# Altium integrated library Resistors.IntLib: 4954 symbols (part 21 of 32)
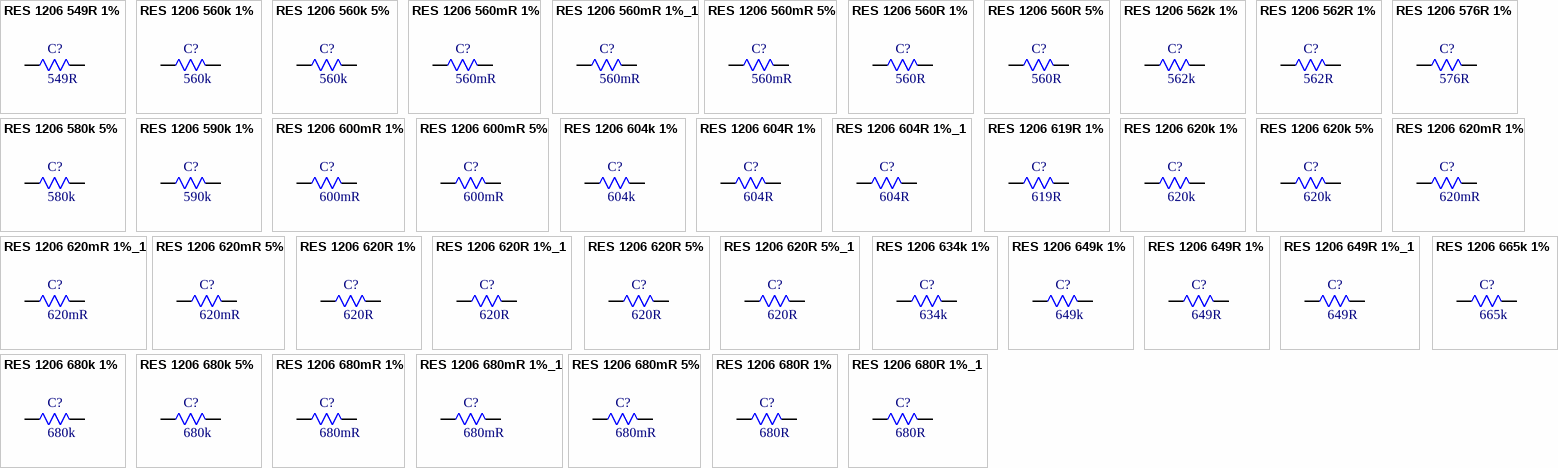
[diagram p143: symbols RES 1206 549R 1% to RES 1206 680R 1%_1]

## RES 1206 680mR 5%
designator C?, comment 680mR
680mR 5% 250mW 1206 Thick Film Resistor; Manufacturer: FOJAN; Manufacturer Part Number: FRL1206JR680TS; Voltage Rating: 500V; Supplier: LCSC; Supplier Part Number: C2907402; Resistance: 680mR; Tolerance: 5%; Power: 250mW
footprint RES SMD 1206
pins: 1, 2

## RES 1206 680R 1%
designator C?, comment 680R
680R 1% 250mW 1206 Thick Film Resistor; Manufacturer: FOJAN; Manufacturer Part Number: FRC1206F6800TS; Voltage Rating: 200V; Supplier: LCSC; Supplier Part Number: C2933746; Resistance: 680R; Tolerance: 1%; Power: 250mW
footprint RES SMD 1206
pins: 1, 2

## RES 1206 680R 1%_1
designator C?, comment 680R
680R 500mW 200V Thick Film Resistor 1% 200ppm/â„ƒ 1206 Chip Resistor - Surface Mount RoHS; Manufacturer: FOJAN; Manufacturer Part Number: FRP1206F6800TS; Supplier: LCSC; Supplier Part Number: C48533685; Resistance: 680R; Tolerance: 1%; Voltage Rating: 200V; Power: 500mW
footprint RES SMD 1206
pins: 1, 2

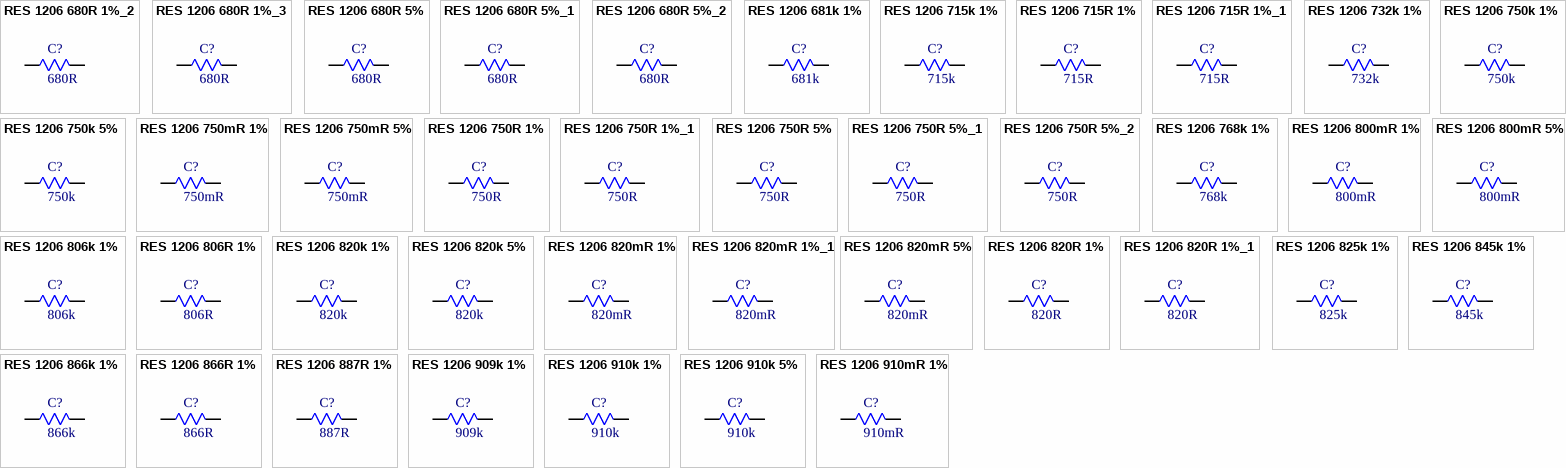
[diagram p80: symbols RES 1206 680R 1%_2 to RES 1206 910mR 1%]

## RES 1206 680R 1%_2
designator C?, comment 680R
680R Thick Film Resistor 100ppm/â„ƒ 1% 1206 Chip Resistor - Surface Mount RoHS; Manufacturer: FOJAN; Manufacturer Part Number: FPQ1206F6800TS; Supplier: LCSC; Supplier Part Number: C3013390; Resistance: 680R; Tolerance: 1%
footprint RES SMD 1206
pins: 1, 2

## RES 1206 680R 1%_3
designator C?, comment 680R
680R 250mW 200V Thick Film Resistor 1% 100ppm/â„ƒ 1206 Chip Resistor - Surface Mount RoHS; Manufacturer: FOJAN; Manufacturer Part Number: FRQ1206F6800TS; Supplier: LCSC; Supplier Part Number: C7471247; Resistance: 680R; Tolerance: 1%; Voltage Rating: 200V; Power: 250mW
footprint RES SMD 1206
pins: 1, 2

## RES 1206 680R 5%
designator C?, comment 680R
680R 5% 250mW 1206 Thick Film Resistor; Manufacturer: FOJAN; Manufacturer Part Number: FRC1206J681 TS; Voltage Rating: 200V; Supplier: LCSC; Supplier Part Number: C2907528; Resistance: 680R; Tolerance: 5%; Power: 250mW
footprint RES SMD 1206
pins: 1, 2

## RES 1206 680R 5%_1
designator C?, comment 680R
680R 250mW Thick Film Resistor 5% 100ppm/â„ƒ 1206 Chip Resistor - Surface Mount RoHS; Manufacturer: FOJAN; Manufacturer Part Number: FRQ1206J681 TS; Supplier: LCSC; Supplier Part Number: C7468542; Resistance: 680R; Tolerance: 5%; Power: 250mW
footprint RES SMD 1206
pins: 1, 2

## RES 1206 680R 5%_2
designator C?, comment 680R
680R 5% 250mW 1206 Thick Film Resistor; Manufacturer: FOJAN; Manufacturer Part Number: FRD1206J681TS; Voltage Rating: 200V; Supplier: LCSC; Supplier Part Number: C2930382; Resistance: 680R; Tolerance: 5%; Power: 250mW
footprint RES SMD 1206
pins: 1, 2

## RES 1206 681k 1%
designator C?, comment 681k
250mW 681kR 200V Thick Film Resistor 1% 1206 Chip Resistor - Surface Mount RoHS; Manufacturer: FOJAN; Manufacturer Part Number: FRC1206F6813TS; Supplier: LCSC; Supplier Part Number: C52033563; Resistance: 681k; Tolerance: 1%; Voltage Rating: 200V; Power: 250mW
footprint RES SMD 1206
pins: 1, 2

## RES 1206 715k 1%
designator C?, comment 715k
715kR 1% 250mW 1206 Thick Film Resistor; Manufacturer: FOJAN; Manufacturer Part Number: FRC1206F7153TS; Voltage Rating: 200V; Supplier: LCSC; Supplier Part Number: C5713330; Resistance: 715k; Tolerance: 1%; Power: 250mW
footprint RES SMD 1206
pins: 1, 2

## RES 1206 715R 1%
designator C?, comment 715R
715R 1% 250mW 1206 Thick Film Resistor; Manufacturer: FOJAN; Manufacturer Part Number: FRC1206F7150TS; Voltage Rating: 200V; Supplier: LCSC; Supplier Part Number: C2999583; Resistance: 715R; Tolerance: 1%; Power: 250mW
footprint RES SMD 1206
pins: 1, 2

## RES 1206 715R 1%_1
designator C?, comment 715R
250mW 715R 200V Thick Film Resistor 1% 100ppm/â„ƒ 1206 Chip Resistor - Surface Mount RoHS; Manufacturer: FOJAN; Manufacturer Part Number: FRQ1206F7150TS; Supplier: LCSC; Supplier Part Number: C7468663; Resistance: 715R; Tolerance: 1%; Voltage Rating: 200V; Power: 250mW
footprint RES SMD 1206
pins: 1, 2

## RES 1206 732k 1%
designator C?, comment 732k
250mW 732kR 200V Thick Film Resistor 100ppm/â„ƒ 1% 1206 Chip Resistor - Surface Mount RoHS; Manufacturer: FOJAN; Manufacturer Part Number: FRC1206F7323TS; Supplier: LCSC; Supplier Part Number: C48533768; Resistance: 732k; Tolerance: 1%; Voltage Rating: 200V; Power: 250mW
footprint RES SMD 1206
pins: 1, 2

## RES 1206 750k 1%
designator C?, comment 750k
750kR 1% 250mW 1206 Thick Film Resistor; Manufacturer: FOJAN; Manufacturer Part Number: FRC1206F7503TS; Voltage Rating: 200V; Supplier: LCSC; Supplier Part Number: C2933754; Resistance: 750k; Tolerance: 1%; Power: 250mW
footprint RES SMD 1206
pins: 1, 2

## RES 1206 750k 5%
designator C?, comment 750k
750kR 5% 250mW 1206 Thick Film Resistor; Manufacturer: FOJAN; Manufacturer Part Number: FRC1206J754 TS; Voltage Rating: 200V; Supplier: LCSC; Supplier Part Number: C2907533; Resistance: 750k; Tolerance: 5%; Power: 250mW
footprint RES SMD 1206
pins: 1, 2

## RES 1206 750mR 1%
designator C?, comment 750mR
750mR 1% 250mW 1206 Thick Film Resistor; Manufacturer: FOJAN; Manufacturer Part Number: FRL1206FR750TS; Voltage Rating: 500V; Supplier: LCSC; Supplier Part Number: C2907360; Resistance: 750mR; Tolerance: 1%; Power: 250mW
footprint RES SMD 1206
pins: 1, 2

## RES 1206 750mR 5%
designator C?, comment 750mR
750mR 5% 250mW 1206 Thick Film Resistor; Manufacturer: FOJAN; Manufacturer Part Number: FRL1206JR750TS; Voltage Rating: 500V; Supplier: LCSC; Supplier Part Number: C2907403; Resistance: 750mR; Tolerance: 5%; Power: 250mW
footprint RES SMD 1206
pins: 1, 2

## RES 1206 750R 1%
designator C?, comment 750R
750R 1% 250mW 1206 Thick Film Resistor; Manufacturer: FOJAN; Manufacturer Part Number: FRC1206F7500TS; Voltage Rating: 200V; Supplier: LCSC; Supplier Part Number: C2933752; Resistance: 750R; Tolerance: 1%; Power: 250mW
footprint RES SMD 1206
pins: 1, 2

## RES 1206 750R 1%_1
designator C?, comment 750R
250mW 750R Thick Film Resistor 1% 100ppm/â„ƒ 1206 Chip Resistor - Surface Mount RoHS; Manufacturer: FOJAN; Manufacturer Part Number: FRQ1206F7500TS; Supplier: LCSC; Supplier Part Number: C7468540; Resistance: 750R; Tolerance: 1%; Power: 250mW
footprint RES SMD 1206
pins: 1, 2

## RES 1206 750R 5%
designator C?, comment 750R
750R 5% 250mW 1206 Thick Film Resistor; Manufacturer: FOJAN; Manufacturer Part Number: FRC1206J751 TS; Voltage Rating: 200V; Supplier: LCSC; Supplier Part Number: C3013272; Resistance: 750R; Tolerance: 5%; Power: 250mW
footprint RES SMD 1206
pins: 1, 2

## RES 1206 750R 5%_1
designator C?, comment 750R
250mW 750R Thick Film Resistor 5% 100ppm/â„ƒ 1206 Chip Resistor - Surface Mount RoHS; Manufacturer: FOJAN; Manufacturer Part Number: FRQ1206J751 TS; Supplier: LCSC; Supplier Part Number: C7468512; Resistance: 750R; Tolerance: 5%; Power: 250mW
footprint RES SMD 1206
pins: 1, 2

## RES 1206 750R 5%_2
designator C?, comment 750R
750R 5% 250mW 1206 Thick Film Resistor; Manufacturer: FOJAN; Manufacturer Part Number: FRC1206J751 TSD; Voltage Rating: 200V; Supplier: LCSC; Supplier Part Number: C2907534; Resistance: 750R; Tolerance: 5%; Power: 250mW
footprint RES SMD 1206
pins: 1, 2

## RES 1206 768k 1%
designator C?, comment 768k
768kR 1% 250mW 1206 Thick Film Resistor; Manufacturer: FOJAN; Manufacturer Part Number: FRC1206F7683TS; Voltage Rating: 200V; Supplier: LCSC; Supplier Part Number: C2960699; Resistance: 768k; Tolerance: 1%; Power: 250mW
footprint RES SMD 1206
pins: 1, 2

## RES 1206 800mR 1%
designator C?, comment 800mR
800mR 1% 250mW 1206 Thick Film Resistor; Manufacturer: FOJAN; Manufacturer Part Number: FRL1206FR800TS; Voltage Rating: 500V; Supplier: LCSC; Supplier Part Number: C2930341; Resistance: 800mR; Tolerance: 1%; Power: 250mW
footprint RES SMD 1206
pins: 1, 2

## RES 1206 800mR 5%
designator C?, comment 800mR
800mR 250mW Thick Film Resistor 200ppm/â„ƒ 5% 1206 Chip Resistor - Surface Mount RoHS; Manufacturer: FOJAN; Manufacturer Part Number: FRL1206JR800TS; Supplier: LCSC; Supplier Part Number: C7467371; Resistance: 800mR; Tolerance: 5%; Power: 250mW
footprint RES SMD 1206
pins: 1, 2

## RES 1206 806k 1%
designator C?, comment 806k
806kR 1% 250mW 1206 Thick Film Resistor; Manufacturer: FOJAN; Manufacturer Part Number: FRC1206F8063TS; Voltage Rating: 200V; Supplier: LCSC; Supplier Part Number: C2933758; Resistance: 806k; Tolerance: 1%; Power: 250mW
footprint RES SMD 1206
pins: 1, 2

## RES 1206 806R 1%
designator C?, comment 806R
806R 1% 250mW 1206 Thick Film Resistor; Manufacturer: FOJAN; Manufacturer Part Number: FRC1206F8060TS; Voltage Rating: 200V; Supplier: LCSC; Supplier Part Number: C2933757; Resistance: 806R; Tolerance: 1%; Power: 250mW
footprint RES SMD 1206
pins: 1, 2

## RES 1206 820k 1%
designator C?, comment 820k
820kR 1% 250mW 1206 Thick Film Resistor; Manufacturer: FOJAN; Manufacturer Part Number: FRC1206F8203TS; Voltage Rating: 200V; Supplier: LCSC; Supplier Part Number: C2960782; Resistance: 820k; Tolerance: 1%; Power: 250mW
footprint RES SMD 1206
pins: 1, 2

## RES 1206 820k 5%
designator C?, comment 820k
820kR 5% 250mW 1206 Thick Film Resistor; Manufacturer: FOJAN; Manufacturer Part Number: FRC1206J824 TS; Voltage Rating: 200V; Supplier: LCSC; Supplier Part Number: C2933796; Resistance: 820k; Tolerance: 5%; Power: 250mW
footprint RES SMD 1206
pins: 1, 2

## RES 1206 820mR 1%
designator C?, comment 820mR
820mR 1% 250mW 1206 Thick Film Resistor; Manufacturer: FOJAN; Manufacturer Part Number: FRL1206FR820TS; Voltage Rating: 500V; Supplier: LCSC; Supplier Part Number: C2907361; Resistance: 820mR; Tolerance: 1%; Power: 250mW
footprint RES SMD 1206
pins: 1, 2

## RES 1206 820mR 1%_1
designator C?, comment 820mR
500mW 820mR 100ppm/â„ƒ 1% 1206 Chip Resistor - Surface Mount RoHS; Manufacturer: FOJAN; Manufacturer Part Number: FPL1206FR820TS; Supplier: LCSC; Supplier Part Number: C22375130; Resistance: 820mR; Tolerance: 1%; Power: 500mW
footprint RES SMD 1206
pins: 1, 2

## RES 1206 820mR 5%
designator C?, comment 820mR
820mR 5% 250mW 1206 Thick Film Resistor; Manufacturer: FOJAN; Manufacturer Part Number: FRL1206JR820TS; Voltage Rating: 500V; Supplier: LCSC; Supplier Part Number: C2907404; Resistance: 820mR; Tolerance: 5%; Power: 250mW
footprint RES SMD 1206
pins: 1, 2

## RES 1206 820R 1%
designator C?, comment 820R
820R 1% 250mW 1206 Thick Film Resistor; Manufacturer: FOJAN; Manufacturer Part Number: FRC1206F8200TS; Voltage Rating: 200V; Supplier: LCSC; Supplier Part Number: C2933759; Resistance: 820R; Tolerance: 1%; Power: 250mW
footprint RES SMD 1206
pins: 1, 2

## RES 1206 820R 1%_1
designator C?, comment 820R
820R 1% 250mW 1206 Thick Film Resistor AEC-Q200; Manufacturer: FOJAN; Manufacturer Part Number: FRQ1206F8200TS; Voltage Rating: 200V; Supplier: LCSC; Supplier Part Number: C5713460; Resistance: 820R; Tolerance: 1%; Power: 250mW
footprint RES SMD 1206
pins: 1, 2

## RES 1206 825k 1%
designator C?, comment 825k
250mW 825kR 200V Thick Film Resistor 100ppm/â„ƒ 1% 1206 Chip Resistor - Surface Mount RoHS; Manufacturer: FOJAN; Manufacturer Part Number: FRC1206F8253TS; Supplier: LCSC; Supplier Part Number: C48533687; Resistance: 825k; Tolerance: 1%; Voltage Rating: 200V; Power: 250mW
footprint RES SMD 1206
pins: 1, 2

## RES 1206 845k 1%
designator C?, comment 845k
845kR 1% 250mW 1206 Thick Film Resistor; Manufacturer: FOJAN; Manufacturer Part Number: FRC1206F8453TS; Voltage Rating: 200V; Supplier: LCSC; Supplier Part Number: C2999559; Resistance: 845k; Tolerance: 1%; Power: 250mW
footprint RES SMD 1206
pins: 1, 2

## RES 1206 866k 1%
designator C?, comment 866k
866kR 1% 250mW 1206 Thick Film Resistor; Manufacturer: FOJAN; Manufacturer Part Number: FRC1206F8663TS; Voltage Rating: 200V; Supplier: LCSC; Supplier Part Number: C2999560; Resistance: 866k; Tolerance: 1%; Power: 250mW
footprint RES SMD 1206
pins: 1, 2

## RES 1206 866R 1%
designator C?, comment 866R
866R 1% 250mW 1206 Thick Film Resistor; Manufacturer: FOJAN; Manufacturer Part Number: FRC1206F8660TS; Voltage Rating: 200V; Supplier: LCSC; Supplier Part Number: C3000589; Resistance: 866R; Tolerance: 1%; Power: 250mW
footprint RES SMD 1206
pins: 1, 2

## RES 1206 887R 1%
designator C?, comment 887R
887R 250mW 200V Thick Film Resistor 100ppm/â„ƒ 1% 1206 Chip Resistor - Surface Mount RoHS; Manufacturer: FOJAN; Manufacturer Part Number: FRC1206F8870TS; Supplier: LCSC; Supplier Part Number: C48533681; Resistance: 887R; Tolerance: 1%; Voltage Rating: 200V; Power: 250mW
footprint RES SMD 1206
pins: 1, 2

## RES 1206 909k 1%
designator C?, comment 909k
909kR 1% 250mW 1206 Thick Film Resistor; Manufacturer: FOJAN; Manufacturer Part Number: FRC1206F9093TS; Voltage Rating: 200V; Supplier: LCSC; Supplier Part Number: C2933765; Resistance: 909k; Tolerance: 1%; Power: 250mW
footprint RES SMD 1206
pins: 1, 2

## RES 1206 910k 1%
designator C?, comment 910k
910kR 1% 250mW 1206 Thick Film Resistor; Manufacturer: FOJAN; Manufacturer Part Number: FRC1206F9103TS; Voltage Rating: 200V; Supplier: LCSC; Supplier Part Number: C2933768; Resistance: 910k; Tolerance: 1%; Power: 250mW
footprint RES SMD 1206
pins: 1, 2

## RES 1206 910k 5%
designator C?, comment 910k
910kR 5% 250mW 1206 Thick Film Resistor; Manufacturer: FOJAN; Manufacturer Part Number: FRC1206J914 TS; Voltage Rating: 200V; Supplier: LCSC; Supplier Part Number: C2960880; Resistance: 910k; Tolerance: 5%; Power: 250mW
footprint RES SMD 1206
pins: 1, 2

## RES 1206 910mR 1%
designator C?, comment 910mR
910mR 1% 250mW 1206 Thick Film Resistor; Manufacturer: FOJAN; Manufacturer Part Number: FRL1206FR910TS; Voltage Rating: 500V; Supplier: LCSC; Supplier Part Number: C2907362; Resistance: 910mR; Tolerance: 1%; Power: 250mW
footprint RES SMD 1206
pins: 1, 2

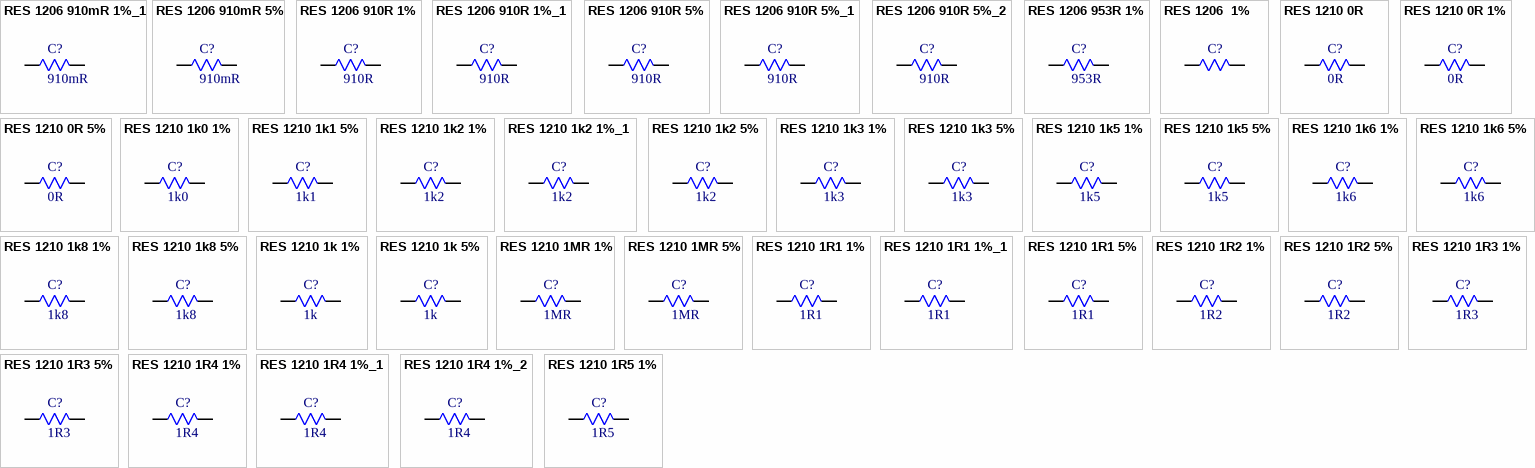
[diagram p81: symbols RES 1206 910mR 1%_1 to RES 1210 1R5 1%]

## RES 1206 910mR 1%_1
designator C?, comment 910mR
500mW 910mR Thick Film Resistor 200ppm/â„ƒ 1% 1206 Chip Resistor - Surface Mount RoHS; Manufacturer: FOJAN; Manufacturer Part Number: FPL1206FR910TS; Supplier: LCSC; Supplier Part Number: C7467853; Resistance: 910mR; Tolerance: 1%; Power: 500mW
footprint RES SMD 1206
pins: 1, 2

## RES 1206 910mR 5%
designator C?, comment 910mR
910mR 5% 250mW 1206 Thick Film Resistor; Manufacturer: FOJAN; Manufacturer Part Number: FRL1206JR910TS; Voltage Rating: 500V; Supplier: LCSC; Supplier Part Number: C2907405; Resistance: 910mR; Tolerance: 5%; Power: 250mW
footprint RES SMD 1206
pins: 1, 2

## RES 1206 910R 1%
designator C?, comment 910R
910R 1% 250mW 1206 Thick Film Resistor; Manufacturer: FOJAN; Manufacturer Part Number: FRC1206F9100TS; Voltage Rating: 200V; Supplier: LCSC; Supplier Part Number: C2930433; Resistance: 910R; Tolerance: 1%; Power: 250mW
footprint RES SMD 1206
pins: 1, 2

## RES 1206 910R 1%_1
designator C?, comment 910R
910R 1% 250mW 1206 Thick Film Resistor AEC-Q200; Manufacturer: FOJAN; Manufacturer Part Number: FRQ1206F9100TS; Voltage Rating: 200V; Supplier: LCSC; Supplier Part Number: C5713461; Resistance: 910R; Tolerance: 1%; Power: 250mW
footprint RES SMD 1206
pins: 1, 2

## RES 1206 910R 5%
designator C?, comment 910R
910R 5% 250mW 1206 Thick Film Resistor AEC-Q200; Manufacturer: FOJAN; Manufacturer Part Number: FRQ1206J911 TS; Voltage Rating: 200V; Supplier: LCSC; Supplier Part Number: C5713474; Resistance: 910R; Tolerance: 5%; Power: 250mW
footprint RES SMD 1206
pins: 1, 2

## RES 1206 910R 5%_1
designator C?, comment 910R
910R 5% 250mW 1206 Thick Film Resistor; Manufacturer: FOJAN; Manufacturer Part Number: FRC1206J911TSD; Voltage Rating: 200V; Supplier: LCSC; Supplier Part Number: C2930389; Resistance: 910R; Tolerance: 5%; Power: 250mW
footprint RES SMD 1206
pins: 1, 2

## RES 1206 910R 5%_2
designator C?, comment 910R
910R 5% 250mW 1206 Thick Film Resistor; Manufacturer: FOJAN; Manufacturer Part Number: FRC1206J911TS; Voltage Rating: 200V; Supplier: LCSC; Supplier Part Number: C5154011; Resistance: 910R; Tolerance: 5%; Power: 250mW
footprint RES SMD 1206
pins: 1, 2

## RES 1206 953R 1%
designator C?, comment 953R
953R 1% 250mW 1206 Thick Film Resistor; Manufacturer: FOJAN; Manufacturer Part Number: FRC1206F9530TS; Voltage Rating: 200V; Supplier: LCSC; Supplier Part Number: C2933769; Resistance: 953R; Tolerance: 1%; Power: 250mW
footprint RES SMD 1206
pins: 1, 2

## RES 1206  1%
designator C?
250mW 200V Thick Film Resistor 1% 1206 Chip Resistor - Surface Mount RoHS; Manufacturer: FOJAN; Manufacturer Part Number: FRR1206F0000TS; Supplier: LCSC; Supplier Part Number: C51048125; Tolerance: 1%; Voltage Rating: 200V; Power: 250mW
footprint RES SMD 1206
pins: 1, 2

## RES 1210 0R
designator C?, comment 0R
0R 500mW 200V Thick Film Resistor 1210 Chip Resistor - Surface Mount RoHS; Manufacturer: FOJAN; Manufacturer Part Number: FRQ1210P000 TS; Supplier: LCSC; Supplier Part Number: C51048113; Resistance: 0R; Voltage Rating: 200V; Power: 500mW
footprint RES SMD 1210
pins: 1, 2

## RES 1210 0R 1%
designator C?, comment 0R
0R 1% 500mW 1210 Thick Film Resistor; Manufacturer: FOJAN; Manufacturer Part Number: FRC1210F0000TS; Voltage Rating: 200V; Supplier: LCSC; Supplier Part Number: C2974058; Resistance: 0R; Tolerance: 1%; Power: 500mW
footprint RES SMD 1210
pins: 1, 2

## RES 1210 0R 5%
designator C?, comment 0R
500mW 0R 200V Thick Film Resistor 5% 1210 Chip Resistor - Surface Mount RoHS; Manufacturer: FOJAN; Manufacturer Part Number: FRC1210P000 TS; Supplier: LCSC; Supplier Part Number: C2907543; Resistance: 0R; Tolerance: 5%; Voltage Rating: 200V; Power: 500mW
footprint RES SMD 1210
pins: 1, 2

## RES 1210 1k0 1%
designator C?, comment 1k0
1.07kR 500mW 200V Thick Film Resistor 1% 1210 Chip Resistor - Surface Mount RoHS; Manufacturer: FOJAN; Manufacturer Part Number: FRC1210F1071TS; Supplier: LCSC; Supplier Part Number: C51048133; Resistance: 1k0; Tolerance: 1%; Voltage Rating: 200V; Power: 500mW
footprint RES SMD 1210
pins: 1, 2

## RES 1210 1k1 5%
designator C?, comment 1k1
1.1kR 5% 500mW 1210 Thick Film Resistor; Manufacturer: FOJAN; Manufacturer Part Number: FRC1210J112 TS; Voltage Rating: 200V; Supplier: LCSC; Supplier Part Number: C2933831; Resistance: 1k1; Tolerance: 5%; Power: 500mW
footprint RES SMD 1210
pins: 1, 2

## RES 1210 1k2 1%
designator C?, comment 1k2
1.2kR 1% 500mW 1210 Thick Film Resistor; Manufacturer: FOJAN; Manufacturer Part Number: FRC1210F1201TS; Voltage Rating: 200V; Supplier: LCSC; Supplier Part Number: C3000653; Resistance: 1k2; Tolerance: 1%; Power: 500mW
footprint RES SMD 1210
pins: 1, 2

## RES 1210 1k2 1%_1
designator C?, comment 1k2
1.21kR 500mW 200V Thick Film Resistor 1% 1210 Chip Resistor - Surface Mount RoHS; Manufacturer: FOJAN; Manufacturer Part Number: FRC1210F1211TS; Supplier: LCSC; Supplier Part Number: C51048136; Resistance: 1k2; Tolerance: 1%; Voltage Rating: 200V; Power: 500mW
footprint RES SMD 1210
pins: 1, 2

## RES 1210 1k2 5%
designator C?, comment 1k2
1.2kR 5% 500mW 1210 Thick Film Resistor; Manufacturer: FOJAN; Manufacturer Part Number: FRC1210J122 TS; Voltage Rating: 200V; Supplier: LCSC; Supplier Part Number: C2960767; Resistance: 1k2; Tolerance: 5%; Power: 500mW
footprint RES SMD 1210
pins: 1, 2

## RES 1210 1k3 1%
designator C?, comment 1k3
1.3kR 1% 500mW 1210 Thick Film Resistor; Manufacturer: FOJAN; Manufacturer Part Number: FRC1210F1301TS; Voltage Rating: 200V; Supplier: LCSC; Supplier Part Number: C3000753; Resistance: 1k3; Tolerance: 1%; Power: 500mW
footprint RES SMD 1210
pins: 1, 2

## RES 1210 1k3 5%
designator C?, comment 1k3
1.3kR 5% 500mW 1210 Thick Film Resistor; Manufacturer: FOJAN; Manufacturer Part Number: FRC1210J132TS; Voltage Rating: 200V; Supplier: LCSC; Supplier Part Number: C3000601; Resistance: 1k3; Tolerance: 5%; Power: 500mW
footprint RES SMD 1210
pins: 1, 2

## RES 1210 1k5 1%
designator C?, comment 1k5
1.5kR 1% 500mW 1210 Thick Film Resistor; Manufacturer: FOJAN; Manufacturer Part Number: FRC1210F1501TS; Voltage Rating: 200V; Supplier: LCSC; Supplier Part Number: C2999566; Resistance: 1k5; Tolerance: 1%; Power: 500mW
footprint RES SMD 1210
pins: 1, 2

## RES 1210 1k5 5%
designator C?, comment 1k5
1.5kR 5% 500mW 1210 Thick Film Resistor; Manufacturer: FOJAN; Manufacturer Part Number: FRC1210J152TS; Voltage Rating: 200V; Supplier: LCSC; Supplier Part Number: C3000602; Resistance: 1k5; Tolerance: 5%; Power: 500mW
footprint RES SMD 1210
pins: 1, 2

## RES 1210 1k6 1%
designator C?, comment 1k6
1.6kR 500mW 200V Thick Film Resistor 1% 1210 Chip Resistor - Surface Mount RoHS; Manufacturer: FOJAN; Manufacturer Part Number: FRC1210F1601TS; Supplier: LCSC; Supplier Part Number: C51048228; Resistance: 1k6; Tolerance: 1%; Voltage Rating: 200V; Power: 500mW
footprint RES SMD 1210
pins: 1, 2

## RES 1210 1k6 5%
designator C?, comment 1k6
1.6kR 5% 500mW 1210 Thick Film Resistor; Manufacturer: FOJAN; Manufacturer Part Number: FRC1210J162 TS; Voltage Rating: 200V; Supplier: LCSC; Supplier Part Number: C2960730; Resistance: 1k6; Tolerance: 5%; Power: 500mW
footprint RES SMD 1210
pins: 1, 2

## RES 1210 1k8 1%
designator C?, comment 1k8
500mW 1.8kR 200V Thick Film Resistor 100ppm/â„ƒ 1% 1210 Chip Resistor - Surface Mount RoHS; Manufacturer: FOJAN; Manufacturer Part Number: FRC1210F1801TS; Supplier: LCSC; Supplier Part Number: C49196907; Resistance: 1k8; Tolerance: 1%; Voltage Rating: 200V; Power: 500mW
footprint RES SMD 1210
pins: 1, 2

## RES 1210 1k8 5%
designator C?, comment 1k8
1.8kR 5% 500mW 1210 Thick Film Resistor; Manufacturer: FOJAN; Manufacturer Part Number: FRC1210J182 TS; Voltage Rating: 200V; Supplier: LCSC; Supplier Part Number: C2933839; Resistance: 1k8; Tolerance: 5%; Power: 500mW
footprint RES SMD 1210
pins: 1, 2

## RES 1210 1k 1%
designator C?, comment 1k
1kR 1% 500mW 1210 Thick Film Resistor; Manufacturer: FOJAN; Manufacturer Part Number: FRC1210F1001TS; Voltage Rating: 200V; Supplier: LCSC; Supplier Part Number: C2960861; Resistance: 1k; Tolerance: 1%; Power: 500mW
footprint RES SMD 1210
pins: 1, 2

## RES 1210 1k 5%
designator C?, comment 1k
1kR 5% 500mW 1210 Thick Film Resistor; Manufacturer: FOJAN; Manufacturer Part Number: FRC1210J102TS; Voltage Rating: 200V; Supplier: LCSC; Supplier Part Number: C2930439; Resistance: 1k; Tolerance: 5%; Power: 500mW
footprint RES SMD 1210
pins: 1, 2

## RES 1210 1MR 1%
designator C?, comment 1MR
1MR 1% 500mW 1210 Thick Film Resistor; Manufacturer: FOJAN; Manufacturer Part Number: FRC1210F1004TS; Voltage Rating: 200V; Supplier: LCSC; Supplier Part Number: C2933801; Resistance: 1MR; Tolerance: 1%; Power: 500mW
footprint RES SMD 1210
pins: 1, 2

## RES 1210 1MR 5%
designator C?, comment 1MR
1MR 5% 500mW 1210 Thick Film Resistor; Manufacturer: FOJAN; Manufacturer Part Number: FRC1210J105 TS; Voltage Rating: 200V; Supplier: LCSC; Supplier Part Number: C2933829; Resistance: 1MR; Tolerance: 5%; Power: 500mW
footprint RES SMD 1210
pins: 1, 2

## RES 1210 1R1 1%
designator C?, comment 1R1
1.15R 1% 500mW 1210 Thick Film Resistor; Manufacturer: FOJAN; Manufacturer Part Number: FRC1210F1R15TS; Voltage Rating: 200V; Supplier: LCSC; Supplier Part Number: C5713335; Resistance: 1R1; Tolerance: 1%; Power: 500mW
footprint RES SMD 1210
pins: 1, 2

## RES 1210 1R1 1%_1
designator C?, comment 1R1
1.1R 1% 500mW 1210 Thick Film Resistor; Manufacturer: FOJAN; Manufacturer Part Number: FRC1210F1R10TS; Voltage Rating: 200V; Supplier: LCSC; Supplier Part Number: C2933808; Resistance: 1R1; Tolerance: 1%; Power: 500mW
footprint RES SMD 1210
pins: 1, 2

## RES 1210 1R1 5%
designator C?, comment 1R1
1.1R 5% 500mW 1210 Thick Film Resistor; Manufacturer: FOJAN; Manufacturer Part Number: FRC1210J1R1 TS; Voltage Rating: 200V; Supplier: LCSC; Supplier Part Number: C2933840; Resistance: 1R1; Tolerance: 5%; Power: 500mW
footprint RES SMD 1210
pins: 1, 2

## RES 1210 1R2 1%
designator C?, comment 1R2
1.2R 1% 500mW 1210 Thick Film Resistor; Manufacturer: FOJAN; Manufacturer Part Number: FRC1210F1R20TS; Voltage Rating: 200V; Supplier: LCSC; Supplier Part Number: C2933809; Resistance: 1R2; Tolerance: 1%; Power: 500mW
footprint RES SMD 1210
pins: 1, 2

## RES 1210 1R2 5%
designator C?, comment 1R2
1.2R 5% 500mW 1210 Thick Film Resistor; Manufacturer: FOJAN; Manufacturer Part Number: FRC1210J1R2TS; Voltage Rating: 200V; Supplier: LCSC; Supplier Part Number: C3000630; Resistance: 1R2; Tolerance: 5%; Power: 500mW
footprint RES SMD 1210
pins: 1, 2

## RES 1210 1R3 1%
designator C?, comment 1R3
1.3R 1% 500mW 1210 Thick Film Resistor; Manufacturer: FOJAN; Manufacturer Part Number: FRC1210F1R30TS; Voltage Rating: 200V; Supplier: LCSC; Supplier Part Number: C2960823; Resistance: 1R3; Tolerance: 1%; Power: 500mW
footprint RES SMD 1210
pins: 1, 2

## RES 1210 1R3 5%
designator C?, comment 1R3
1.3R 5% 500mW 1210 Thick Film Resistor; Manufacturer: FOJAN; Manufacturer Part Number: FRC1210J1R3 TS; Voltage Rating: 200V; Supplier: LCSC; Supplier Part Number: C2933841; Resistance: 1R3; Tolerance: 5%; Power: 500mW
footprint RES SMD 1210
pins: 1, 2

## RES 1210 1R4 1%
designator C?, comment 1R4
1.4R 1% 500mW 1210 Thick Film Resistor; Manufacturer: FOJAN; Manufacturer Part Number: FRC1210F1R40TS; Voltage Rating: 200V; Supplier: LCSC; Supplier Part Number: C5126235; Resistance: 1R4; Tolerance: 1%; Power: 500mW
footprint RES SMD 1210
pins: 1, 2

## RES 1210 1R4 1%_1
designator C?, comment 1R4
1.47R 1% 500mW 1210 Thick Film Resistor; Manufacturer: FOJAN; Manufacturer Part Number: FRC1210F1R47TS; Voltage Rating: 200V; Supplier: LCSC; Supplier Part Number: C3013275; Resistance: 1R4; Tolerance: 1%; Power: 500mW
footprint RES SMD 1210
pins: 1, 2

## RES 1210 1R4 1%_2
designator C?, comment 1R4
500mW 1.43R 200V Thick Film Resistor 200ppm/â„ƒ 1% 1210 Chip Resistor - Surface Mount RoHS; Manufacturer: FOJAN; Manufacturer Part Number: FRC1210F1R43TS; Supplier: LCSC; Supplier Part Number: C49010120; Resistance: 1R4; Tolerance: 1%; Voltage Rating: 200V; Power: 500mW
footprint RES SMD 1210
pins: 1, 2

## RES 1210 1R5 1%
designator C?, comment 1R5
1.5R 1% 500mW 1210 Thick Film Resistor; Manufacturer: FOJAN; Manufacturer Part Number: FRC1210F1R50TS; Voltage Rating: 200V; Supplier: LCSC; Supplier Part Number: C2960845; Resistance: 1R5; Tolerance: 1%; Power: 500mW
footprint RES SMD 1210
pins: 1, 2

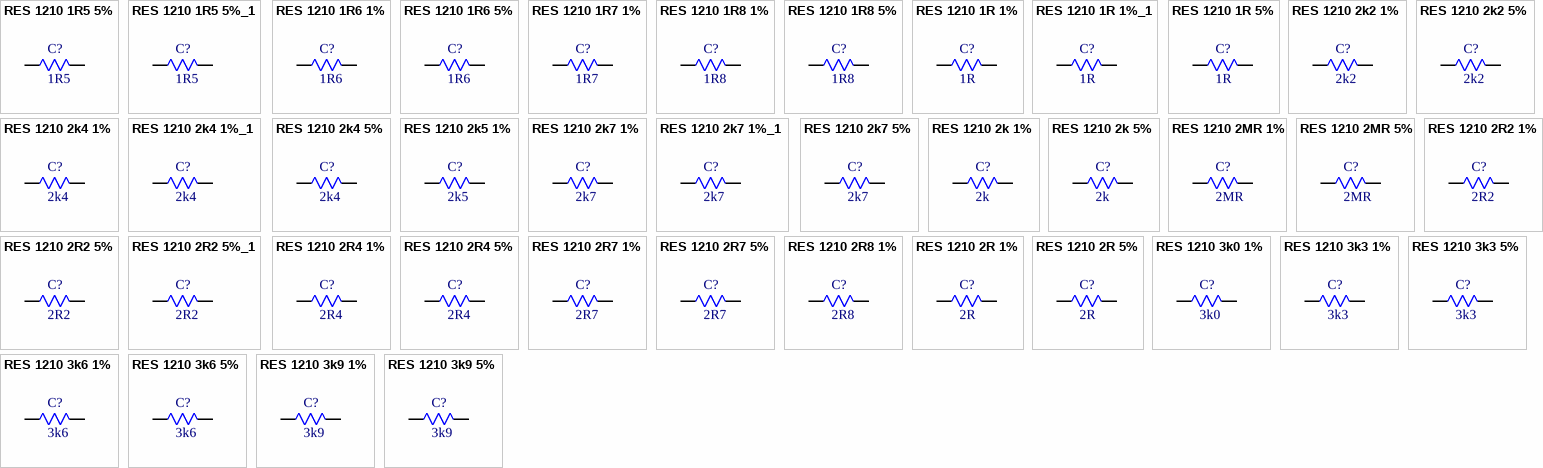
[diagram p82: symbols RES 1210 1R5 5% to RES 1210 3k9 5%]

## RES 1210 1R5 5%
designator C?, comment 1R5
1.5R 5% 500mW 1210 Thick Film Resistor; Manufacturer: FOJAN; Manufacturer Part Number: FRC1210J1R5 TS; Voltage Rating: 200V; Supplier: LCSC; Supplier Part Number: C2960666; Resistance: 1R5; Tolerance: 5%; Power: 500mW
footprint RES SMD 1210
pins: 1, 2

## RES 1210 1R5 5%_1
designator C?, comment 1R5
1.5MR 5% 500mW 1210 Thick Film Resistor; Manufacturer: FOJAN; Manufacturer Part Number: FRC1210J155 TS; Voltage Rating: 200V; Supplier: LCSC; Supplier Part Number: C5713342; Resistance: 1R5; Tolerance: 5%; Power: 500mW
footprint RES SMD 1210
pins: 1, 2

## RES 1210 1R6 1%
designator C?, comment 1R6
1.6R 1% 500mW 1210 Thick Film Resistor; Manufacturer: FOJAN; Manufacturer Part Number: FRC1210F1R60TS; Voltage Rating: 200V; Supplier: LCSC; Supplier Part Number: C2933810; Resistance: 1R6; Tolerance: 1%; Power: 500mW
footprint RES SMD 1210
pins: 1, 2

## RES 1210 1R6 5%
designator C?, comment 1R6
1.6R 5% 500mW 1210 Thick Film Resistor; Manufacturer: FOJAN; Manufacturer Part Number: FRC1210J1R6 TS; Voltage Rating: 200V; Supplier: LCSC; Supplier Part Number: C2933842; Resistance: 1R6; Tolerance: 5%; Power: 500mW
footprint RES SMD 1210
pins: 1, 2

## RES 1210 1R7 1%
designator C?, comment 1R7
1.74R 1% 500mW 1210 Thick Film Resistor; Manufacturer: FOJAN; Manufacturer Part Number: FRC1210F1R74TS; Voltage Rating: 200V; Supplier: LCSC; Supplier Part Number: C5153991; Resistance: 1R7; Tolerance: 1%; Power: 500mW
footprint RES SMD 1210
pins: 1, 2

## RES 1210 1R8 1%
designator C?, comment 1R8
1.8R 1% 500mW 1210 Thick Film Resistor; Manufacturer: FOJAN; Manufacturer Part Number: FRC1210F1R80TS; Voltage Rating: 200V; Supplier: LCSC; Supplier Part Number: C2974064; Resistance: 1R8; Tolerance: 1%; Power: 500mW
footprint RES SMD 1210
pins: 1, 2

## RES 1210 1R8 5%
designator C?, comment 1R8
1.8R 5% 500mW 1210 Thick Film Resistor; Manufacturer: FOJAN; Manufacturer Part Number: FRC1210J1R8 TS; Voltage Rating: 200V; Supplier: LCSC; Supplier Part Number: C2960864; Resistance: 1R8; Tolerance: 5%; Power: 500mW
footprint RES SMD 1210
pins: 1, 2

## RES 1210 1R 1%
designator C?, comment 1R
1R 500mW 200V Thick Film Resistor 1% 200ppm/â„ƒ 1210 Chip Resistor - Surface Mount RoHS; Manufacturer: FOJAN; Manufacturer Part Number: FRR1210F1R00TS; Supplier: LCSC; Supplier Part Number: C49196857; Resistance: 1R; Tolerance: 1%; Voltage Rating: 200V; Power: 500mW
footprint RES SMD 1210
pins: 1, 2

## RES 1210 1R 1%_1
designator C?, comment 1R
1R 1% 500mW 1210 Thick Film Resistor; Manufacturer: FOJAN; Manufacturer Part Number: FRC1210F1R00TS; Voltage Rating: 200V; Supplier: LCSC; Supplier Part Number: C3000654; Resistance: 1R; Tolerance: 1%; Power: 500mW
footprint RES SMD 1210
pins: 1, 2

## RES 1210 1R 5%
designator C?, comment 1R
1R 5% 500mW 1210 Thick Film Resistor; Manufacturer: FOJAN; Manufacturer Part Number: FRC1210J1R0 TS; Voltage Rating: 200V; Supplier: LCSC; Supplier Part Number: C2974068; Resistance: 1R; Tolerance: 5%; Power: 500mW
footprint RES SMD 1210
pins: 1, 2

## RES 1210 2k2 1%
designator C?, comment 2k2
2.2kR 1% 500mW 1210 Thick Film Resistor; Manufacturer: FOJAN; Manufacturer Part Number: FRC1210F2201TS; Voltage Rating: 200V; Supplier: LCSC; Supplier Part Number: C3000590; Resistance: 2k2; Tolerance: 1%; Power: 500mW
footprint RES SMD 1210
pins: 1, 2

## RES 1210 2k2 5%
designator C?, comment 2k2
2.2kR 5% 500mW 1210 Thick Film Resistor; Manufacturer: FOJAN; Manufacturer Part Number: FRC1210J222 TS; Voltage Rating: 200V; Supplier: LCSC; Supplier Part Number: C2960928; Resistance: 2k2; Tolerance: 5%; Power: 500mW
footprint RES SMD 1210
pins: 1, 2

## RES 1210 2k4 1%
designator C?, comment 2k4
2.4kR 1% 500mW 1210 Thick Film Resistor; Manufacturer: FOJAN; Manufacturer Part Number: FRC1210F2401TS; Voltage Rating: 200V; Supplier: LCSC; Supplier Part Number: C5126113; Resistance: 2k4; Tolerance: 1%; Power: 500mW
footprint RES SMD 1210
pins: 1, 2

## RES 1210 2k4 1%_1
designator C?, comment 2k4
2.43kR 500mW 200V Thick Film Resistor 1% 1210 Chip Resistor - Surface Mount RoHS; Manufacturer: FOJAN; Manufacturer Part Number: FRC1210F2431TS; Supplier: LCSC; Supplier Part Number: C52033560; Resistance: 2k4; Tolerance: 1%; Voltage Rating: 200V; Power: 500mW
footprint RES SMD 1210
pins: 1, 2

## RES 1210 2k4 5%
designator C?, comment 2k4
2.4kR 5% 500mW 1210 Thick Film Resistor; Manufacturer: FOJAN; Manufacturer Part Number: FRC1210J242 TS; Voltage Rating: 200V; Supplier: LCSC; Supplier Part Number: C2933852; Resistance: 2k4; Tolerance: 5%; Power: 500mW
footprint RES SMD 1210
pins: 1, 2

## RES 1210 2k5 1%
designator C?, comment 2k5
500mW 2.55kR 200V Thick Film Resistor 100ppm/â„ƒ 1% 1210 Chip Resistor - Surface Mount RoHS; Manufacturer: FOJAN; Manufacturer Part Number: FRC1210F2551TS; Supplier: LCSC; Supplier Part Number: C48533771; Resistance: 2k5; Tolerance: 1%; Voltage Rating: 200V; Power: 500mW
footprint RES SMD 1210
pins: 1, 2

## RES 1210 2k7 1%
designator C?, comment 2k7
500mW 2.7kR 200V Thick Film Resistor 1% 100ppm/â„ƒ 1210 Chip Resistor - Surface Mount RoHS; Manufacturer: FOJAN; Manufacturer Part Number: FRC1210F2701TS; Supplier: LCSC; Supplier Part Number: C7467310; Resistance: 2k7; Tolerance: 1%; Voltage Rating: 200V; Power: 500mW
footprint RES SMD 1210
pins: 1, 2

## RES 1210 2k7 1%_1
designator C?, comment 2k7
2.74kR 500mW 200V Thick Film Resistor 1% 1210 Chip Resistor - Surface Mount RoHS; Manufacturer: FOJAN; Manufacturer Part Number: FRC1210F2741TS; Supplier: LCSC; Supplier Part Number: C51048334; Resistance: 2k7; Tolerance: 1%; Voltage Rating: 200V; Power: 500mW
footprint RES SMD 1210
pins: 1, 2

## RES 1210 2k7 5%
designator C?, comment 2k7
2.7kR 5% 500mW 1210 Thick Film Resistor; Manufacturer: FOJAN; Manufacturer Part Number: FRC1210J272 TS; Voltage Rating: 200V; Supplier: LCSC; Supplier Part Number: C2974069; Resistance: 2k7; Tolerance: 5%; Power: 500mW
footprint RES SMD 1210
pins: 1, 2

## RES 1210 2k 1%
designator C?, comment 2k
2kR 500mW 200V Thick Film Resistor 1% 100ppm/â„ƒ 1210 Chip Resistor - Surface Mount RoHS; Manufacturer: FOJAN; Manufacturer Part Number: FRC1210F2001TS; Supplier: LCSC; Supplier Part Number: C7467458; Resistance: 2k; Tolerance: 1%; Voltage Rating: 200V; Power: 500mW
footprint RES SMD 1210
pins: 1, 2

## RES 1210 2k 5%
designator C?, comment 2k
2kR 5% 500mW 1210 Thick Film Resistor; Manufacturer: FOJAN; Manufacturer Part Number: FRC1210J202 TS; Voltage Rating: 200V; Supplier: LCSC; Supplier Part Number: C2907547; Resistance: 2k; Tolerance: 5%; Power: 500mW
footprint RES SMD 1210
pins: 1, 2

## RES 1210 2MR 1%
designator C?, comment 2MR
2MR 500mW 200V Thick Film Resistor 1% 1210 Chip Resistor - Surface Mount RoHS; Manufacturer: FOJAN; Manufacturer Part Number: FRC1210F2004TS; Supplier: LCSC; Supplier Part Number: C51048333; Resistance: 2MR; Tolerance: 1%; Voltage Rating: 200V; Power: 500mW
footprint RES SMD 1210
pins: 1, 2

## RES 1210 2MR 5%
designator C?, comment 2MR
2MR 5% 500mW 1210 Thick Film Resistor; Manufacturer: FOJAN; Manufacturer Part Number: FRC1210J205 TS; Voltage Rating: 200V; Supplier: LCSC; Supplier Part Number: C2933846; Resistance: 2MR; Tolerance: 5%; Power: 500mW
footprint RES SMD 1210
pins: 1, 2

## RES 1210 2R2 1%
designator C?, comment 2R2
2.2R 1% 500mW 1210 Thick Film Resistor; Manufacturer: FOJAN; Manufacturer Part Number: FRC1210F2R20TS; Voltage Rating: 200V; Supplier: LCSC; Supplier Part Number: C3013277; Resistance: 2R2; Tolerance: 1%; Power: 500mW
footprint RES SMD 1210
pins: 1, 2

## RES 1210 2R2 5%
designator C?, comment 2R2
2.2R 5% 500mW 1210 Thick Film Resistor; Manufacturer: FOJAN; Manufacturer Part Number: FRC1210J2R2 TS; Voltage Rating: 200V; Supplier: LCSC; Supplier Part Number: C2907545; Resistance: 2R2; Tolerance: 5%; Power: 500mW
footprint RES SMD 1210
pins: 1, 2

## RES 1210 2R2 5%_1
designator C?, comment 2R2
2.2MR 5% 500mW 1210 Thick Film Resistor; Manufacturer: FOJAN; Manufacturer Part Number: FRC1210J225 TS; Voltage Rating: 200V; Supplier: LCSC; Supplier Part Number: C2933849; Resistance: 2R2; Tolerance: 5%; Power: 500mW
footprint RES SMD 1210
pins: 1, 2

## RES 1210 2R4 1%
designator C?, comment 2R4
2.4R 1% 500mW 1210 Thick Film Resistor; Manufacturer: FOJAN; Manufacturer Part Number: FRC1210F2R40TS; Voltage Rating: 200V; Supplier: LCSC; Supplier Part Number: C2999569; Resistance: 2R4; Tolerance: 1%; Power: 500mW
footprint RES SMD 1210
pins: 1, 2

## RES 1210 2R4 5%
designator C?, comment 2R4
2.4R 5% 500mW 1210 Thick Film Resistor; Manufacturer: FOJAN; Manufacturer Part Number: FRC1210J2R4 TS; Voltage Rating: 200V; Supplier: LCSC; Supplier Part Number: C2933857; Resistance: 2R4; Tolerance: 5%; Power: 500mW
footprint RES SMD 1210
pins: 1, 2

## RES 1210 2R7 1%
designator C?, comment 2R7
2.7R 1% 500mW 1210 Thick Film Resistor; Manufacturer: FOJAN; Manufacturer Part Number: FRC1210F2R70TS; Voltage Rating: 200V; Supplier: LCSC; Supplier Part Number: C2999504; Resistance: 2R7; Tolerance: 1%; Power: 500mW
footprint RES SMD 1210
pins: 1, 2

## RES 1210 2R7 5%
designator C?, comment 2R7
2.7R 5% 500mW 1210 Thick Film Resistor; Manufacturer: FOJAN; Manufacturer Part Number: FRC1210J2R7 TS; Voltage Rating: 200V; Supplier: LCSC; Supplier Part Number: C2974071; Resistance: 2R7; Tolerance: 5%; Power: 500mW
footprint RES SMD 1210
pins: 1, 2

## RES 1210 2R8 1%
designator C?, comment 2R8
2.8R 500mW 200V Thick Film Resistor 1% 1210 Chip Resistor - Surface Mount RoHS; Manufacturer: FOJAN; Manufacturer Part Number: FRC1210F2R80TS; Supplier: LCSC; Supplier Part Number: C51048209; Resistance: 2R8; Tolerance: 1%; Voltage Rating: 200V; Power: 500mW
footprint RES SMD 1210
pins: 1, 2

## RES 1210 2R 1%
designator C?, comment 2R
2R 1% 500mW 1210 Thick Film Resistor; Manufacturer: FOJAN; Manufacturer Part Number: FRC1210F2R00TS; Voltage Rating: 200V; Supplier: LCSC; Supplier Part Number: C2999610; Resistance: 2R; Tolerance: 1%; Power: 500mW
footprint RES SMD 1210
pins: 1, 2

## RES 1210 2R 5%
designator C?, comment 2R
2R 5% 500mW 1210 Thick Film Resistor; Manufacturer: FOJAN; Manufacturer Part Number: FRC1210J2R0 TS; Voltage Rating: 200V; Supplier: LCSC; Supplier Part Number: C2960878; Resistance: 2R; Tolerance: 5%; Power: 500mW
footprint RES SMD 1210
pins: 1, 2

## RES 1210 3k0 1%
designator C?, comment 3k0
500mW 3.01kR 200V Thick Film Resistor 1% 1210 Chip Resistor - Surface Mount RoHS; Manufacturer: FOJAN; Manufacturer Part Number: FRC1210F3011TS; Supplier: LCSC; Supplier Part Number: C51048135; Resistance: 3k0; Tolerance: 1%; Voltage Rating: 200V; Power: 500mW
footprint RES SMD 1210
pins: 1, 2

## RES 1210 3k3 1%
designator C?, comment 3k3
3.3kR 1% 500mW 1210 Thick Film Resistor; Manufacturer: FOJAN; Manufacturer Part Number: FRC1210F3301TS; Voltage Rating: 200V; Supplier: LCSC; Supplier Part Number: C2999567; Resistance: 3k3; Tolerance: 1%; Power: 500mW
footprint RES SMD 1210
pins: 1, 2

## RES 1210 3k3 5%
designator C?, comment 3k3
3.3kR 5% 500mW 1210 Thick Film Resistor; Manufacturer: FOJAN; Manufacturer Part Number: FRC1210J332 TS; Voltage Rating: 200V; Supplier: LCSC; Supplier Part Number: C2907548; Resistance: 3k3; Tolerance: 5%; Power: 500mW
footprint RES SMD 1210
pins: 1, 2

## RES 1210 3k6 1%
designator C?, comment 3k6
3.6kR 1% 500mW 1210 Thick Film Resistor; Manufacturer: FOJAN; Manufacturer Part Number: FRC1210F3601TS; Voltage Rating: 200V; Supplier: LCSC; Supplier Part Number: C5153983; Resistance: 3k6; Tolerance: 1%; Power: 500mW
footprint RES SMD 1210
pins: 1, 2

## RES 1210 3k6 5%
designator C?, comment 3k6
3.6kR 5% 500mW 1210 Thick Film Resistor; Manufacturer: FOJAN; Manufacturer Part Number: FRC1210J362TS; Voltage Rating: 200V; Supplier: LCSC; Supplier Part Number: C2930440; Resistance: 3k6; Tolerance: 5%; Power: 500mW
footprint RES SMD 1210
pins: 1, 2

## RES 1210 3k9 1%
designator C?, comment 3k9
500mW 3.9kR 200V Thick Film Resistor 1% 100ppm/â„ƒ 1210 Chip Resistor - Surface Mount RoHS; Manufacturer: FOJAN; Manufacturer Part Number: FRC1210F3901TS; Supplier: LCSC; Supplier Part Number: C7467311; Resistance: 3k9; Tolerance: 1%; Voltage Rating: 200V; Power: 500mW
footprint RES SMD 1210
pins: 1, 2

## RES 1210 3k9 5%
designator C?, comment 3k9
3.9kR 5% 500mW 1210 Thick Film Resistor; Manufacturer: FOJAN; Manufacturer Part Number: FRC1210J392 TS; Voltage Rating: 200V; Supplier: LCSC; Supplier Part Number: C2933863; Resistance: 3k9; Tolerance: 5%; Power: 500mW
footprint RES SMD 1210
pins: 1, 2

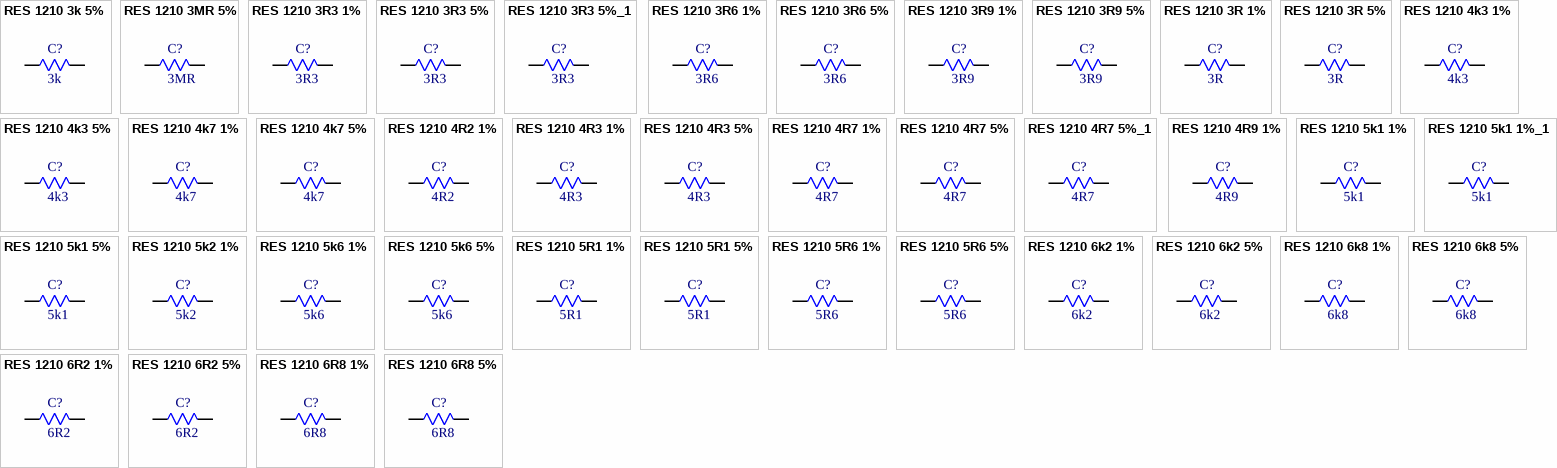
[diagram p83: symbols RES 1210 3k 5% to RES 1210 6R8 5%]

## RES 1210 3k 5%
designator C?, comment 3k
3kR 5% 500mW 1210 Thick Film Resistor; Manufacturer: FOJAN; Manufacturer Part Number: FRC1210J302TS; Voltage Rating: 200V; Supplier: LCSC; Supplier Part Number: C3000631; Resistance: 3k; Tolerance: 5%; Power: 500mW
footprint RES SMD 1210
pins: 1, 2

## RES 1210 3MR 5%
designator C?, comment 3MR
3MR 5% 500mW 1210 Thick Film Resistor; Manufacturer: FOJAN; Manufacturer Part Number: FRC1210J305 TS; Voltage Rating: 200V; Supplier: LCSC; Supplier Part Number: C2933860; Resistance: 3MR; Tolerance: 5%; Power: 500mW
footprint RES SMD 1210
pins: 1, 2

## RES 1210 3R3 1%
designator C?, comment 3R3
3.3R 1% 500mW 1210 Thick Film Resistor; Manufacturer: FOJAN; Manufacturer Part Number: FRC1210F3R30TS; Voltage Rating: 200V; Supplier: LCSC; Supplier Part Number: C2999568; Resistance: 3R3; Tolerance: 1%; Power: 500mW
footprint RES SMD 1210
pins: 1, 2

## RES 1210 3R3 5%
designator C?, comment 3R3
3.3R 5% 500mW 1210 Thick Film Resistor; Manufacturer: FOJAN; Manufacturer Part Number: FRC1210J3R3 TS; Voltage Rating: 200V; Supplier: LCSC; Supplier Part Number: C2933865; Resistance: 3R3; Tolerance: 5%; Power: 500mW
footprint RES SMD 1210
pins: 1, 2

## RES 1210 3R3 5%_1
designator C?, comment 3R3
3.3MR 5% 500mW 1210 Thick Film Resistor; Manufacturer: FOJAN; Manufacturer Part Number: FRC1210J335 TS; Voltage Rating: 200V; Supplier: LCSC; Supplier Part Number: C2933862; Resistance: 3R3; Tolerance: 5%; Power: 500mW
footprint RES SMD 1210
pins: 1, 2

## RES 1210 3R6 1%
designator C?, comment 3R6
3.6R 1% 500mW 1210 Thick Film Resistor; Manufacturer: FOJAN; Manufacturer Part Number: FRC1210F3R60TS; Voltage Rating: 200V; Supplier: LCSC; Supplier Part Number: C2933820; Resistance: 3R6; Tolerance: 1%; Power: 500mW
footprint RES SMD 1210
pins: 1, 2

## RES 1210 3R6 5%
designator C?, comment 3R6
3.6R 5% 500mW 1210 Thick Film Resistor; Manufacturer: FOJAN; Manufacturer Part Number: FRC1210J3R6TS; Voltage Rating: 200V; Supplier: LCSC; Supplier Part Number: C2930441; Resistance: 3R6; Tolerance: 5%; Power: 500mW
footprint RES SMD 1210
pins: 1, 2

## RES 1210 3R9 1%
designator C?, comment 3R9
3.9R 1% 500mW 1210 Thick Film Resistor; Manufacturer: FOJAN; Manufacturer Part Number: FRC1210F3R90TS; Voltage Rating: 200V; Supplier: LCSC; Supplier Part Number: C3000655; Resistance: 3R9; Tolerance: 1%; Power: 500mW
footprint RES SMD 1210
pins: 1, 2

## RES 1210 3R9 5%
designator C?, comment 3R9
3.9R 5% 500mW 1210 Thick Film Resistor; Manufacturer: FOJAN; Manufacturer Part Number: FRC1210J3R9TS; Voltage Rating: 200V; Supplier: LCSC; Supplier Part Number: C3000690; Resistance: 3R9; Tolerance: 5%; Power: 500mW
footprint RES SMD 1210
pins: 1, 2

## RES 1210 3R 1%
designator C?, comment 3R
3R 1% 500mW 1210 Thick Film Resistor; Manufacturer: FOJAN; Manufacturer Part Number: FRC1210F3R00TS; Voltage Rating: 200V; Supplier: LCSC; Supplier Part Number: C2999570; Resistance: 3R; Tolerance: 1%; Power: 500mW
footprint RES SMD 1210
pins: 1, 2

## RES 1210 3R 5%
designator C?, comment 3R
3R 5% 500mW 1210 Thick Film Resistor; Manufacturer: FOJAN; Manufacturer Part Number: FRC1210J3R0TS; Voltage Rating: 200V; Supplier: LCSC; Supplier Part Number: C2930442; Resistance: 3R; Tolerance: 5%; Power: 500mW
footprint RES SMD 1210
pins: 1, 2

## RES 1210 4k3 1%
designator C?, comment 4k3
4.32kR 500mW 200V Thick Film Resistor 1% 1210 Chip Resistor - Surface Mount RoHS; Manufacturer: FOJAN; Manufacturer Part Number: FRC1210F4321TS; Supplier: LCSC; Supplier Part Number: C51048137; Resistance: 4k3; Tolerance: 1%; Voltage Rating: 200V; Power: 500mW
footprint RES SMD 1210
pins: 1, 2

## RES 1210 4k3 5%
designator C?, comment 4k3
4.3kR 5% 500mW 1210 Thick Film Resistor; Manufacturer: FOJAN; Manufacturer Part Number: FRC1210J432TS; Voltage Rating: 200V; Supplier: LCSC; Supplier Part Number: C3000632; Resistance: 4k3; Tolerance: 5%; Power: 500mW
footprint RES SMD 1210
pins: 1, 2

## RES 1210 4k7 1%
designator C?, comment 4k7
4.7kR 1% 500mW 1210 Thick Film Resistor; Manufacturer: FOJAN; Manufacturer Part Number: FRC1210F4701TS; Voltage Rating: 200V; Supplier: LCSC; Supplier Part Number: C2930443; Resistance: 4k7; Tolerance: 1%; Power: 500mW
footprint RES SMD 1210
pins: 1, 2

## RES 1210 4k7 5%
designator C?, comment 4k7
4.7kR 5% 500mW 1210 Thick Film Resistor; Manufacturer: FOJAN; Manufacturer Part Number: FRC1210J472TS; Voltage Rating: 200V; Supplier: LCSC; Supplier Part Number: C3000636; Resistance: 4k7; Tolerance: 5%; Power: 500mW
footprint RES SMD 1210
pins: 1, 2

## RES 1210 4R2 1%
designator C?, comment 4R2
500mW 4.2R 200V Thick Film Resistor 200ppm/â„ƒ 1% 1210 Chip Resistor - Surface Mount RoHS; Manufacturer: FOJAN; Manufacturer Part Number: FRC1210F4R02TS; Supplier: LCSC; Supplier Part Number: C49196902; Resistance: 4R2; Tolerance: 1%; Voltage Rating: 200V; Power: 500mW
footprint RES SMD 1210
pins: 1, 2

## RES 1210 4R3 1%
designator C?, comment 4R3
4.3R 1% 500mW 1210 Thick Film Resistor; Manufacturer: FOJAN; Manufacturer Part Number: FRC1210F4R30TS; Voltage Rating: 200V; Supplier: LCSC; Supplier Part Number: C3000543; Resistance: 4R3; Tolerance: 1%; Power: 500mW
footprint RES SMD 1210
pins: 1, 2

## RES 1210 4R3 5%
designator C?, comment 4R3
4.3R 5% 500mW 1210 Thick Film Resistor; Manufacturer: FOJAN; Manufacturer Part Number: FRC1210J4R3TS; Voltage Rating: 200V; Supplier: LCSC; Supplier Part Number: C3000676; Resistance: 4R3; Tolerance: 5%; Power: 500mW
footprint RES SMD 1210
pins: 1, 2

## RES 1210 4R7 1%
designator C?, comment 4R7
4.7R 1% 500mW 1210 Thick Film Resistor; Manufacturer: FOJAN; Manufacturer Part Number: FRC1210F4R70TS; Voltage Rating: 200V; Supplier: LCSC; Supplier Part Number: C2999571; Resistance: 4R7; Tolerance: 1%; Power: 500mW
footprint RES SMD 1210
pins: 1, 2

## RES 1210 4R7 5%
designator C?, comment 4R7
4.7R 5% 500mW 1210 Thick Film Resistor; Manufacturer: FOJAN; Manufacturer Part Number: FRC1210J4R7 TS; Voltage Rating: 200V; Supplier: LCSC; Supplier Part Number: C2960784; Resistance: 4R7; Tolerance: 5%; Power: 500mW
footprint RES SMD 1210
pins: 1, 2

## RES 1210 4R7 5%_1
designator C?, comment 4R7
4.7MR 500mW 200V Thick Film Resistor 5% 100ppm/â„ƒ 1210 Chip Resistor - Surface Mount RoHS; Manufacturer: FOJAN; Manufacturer Part Number: FRC1210J475 TS; Supplier: LCSC; Supplier Part Number: C7467438; Resistance: 4R7; Tolerance: 5%; Voltage Rating: 200V; Power: 500mW
footprint RES SMD 1210
pins: 1, 2

## RES 1210 4R9 1%
designator C?, comment 4R9
4.99R 1% 500mW 1210 Thick Film Resistor; Manufacturer: FOJAN; Manufacturer Part Number: FRC1210F4R99TS; Voltage Rating: 200V; Supplier: LCSC; Supplier Part Number: C5126236; Resistance: 4R9; Tolerance: 1%; Power: 500mW
footprint RES SMD 1210
pins: 1, 2

## RES 1210 5k1 1%
designator C?, comment 5k1
5.1kR 1% 500mW 1210 Thick Film Resistor; Manufacturer: FOJAN; Manufacturer Part Number: FRC1210F5101TS; Voltage Rating: 200V; Supplier: LCSC; Supplier Part Number: C2933822; Resistance: 5k1; Tolerance: 1%; Power: 500mW
footprint RES SMD 1210
pins: 1, 2

## RES 1210 5k1 1%_1
designator C?, comment 5k1
5.11kR 1% 500mW 1210 Thick Film Resistor; Manufacturer: FOJAN; Manufacturer Part Number: FRC1210F5111TS; Voltage Rating: 200V; Supplier: LCSC; Supplier Part Number: C5154001; Resistance: 5k1; Tolerance: 1%; Power: 500mW
footprint RES SMD 1210
pins: 1, 2

## RES 1210 5k1 5%
designator C?, comment 5k1
5.1kR 5% 500mW 1210 Thick Film Resistor; Manufacturer: FOJAN; Manufacturer Part Number: FRC1210J512 TS; Voltage Rating: 200V; Supplier: LCSC; Supplier Part Number: C2933867; Resistance: 5k1; Tolerance: 5%; Power: 500mW
footprint RES SMD 1210
pins: 1, 2

## RES 1210 5k2 1%
designator C?, comment 5k2
5.23kR 500mW 200V Thick Film Resistor 1% 1210 Chip Resistor - Surface Mount RoHS; Manufacturer: FOJAN; Manufacturer Part Number: FRC1210F5231TS; Supplier: LCSC; Supplier Part Number: C51048229; Resistance: 5k2; Tolerance: 1%; Voltage Rating: 200V; Power: 500mW
footprint RES SMD 1210
pins: 1, 2

## RES 1210 5k6 1%
designator C?, comment 5k6
5.6kR 1% 500mW 1210 Thick Film Resistor; Manufacturer: FOJAN; Manufacturer Part Number: FRC1210F5601TS; Voltage Rating: 200V; Supplier: LCSC; Supplier Part Number: C3000658; Resistance: 5k6; Tolerance: 1%; Power: 500mW
footprint RES SMD 1210
pins: 1, 2

## RES 1210 5k6 5%
designator C?, comment 5k6
5.6kR 5% 500mW 1210 Thick Film Resistor; Manufacturer: FOJAN; Manufacturer Part Number: FRC1210J562TS; Voltage Rating: 200V; Supplier: LCSC; Supplier Part Number: C2930445; Resistance: 5k6; Tolerance: 5%; Power: 500mW
footprint RES SMD 1210
pins: 1, 2

## RES 1210 5R1 1%
designator C?, comment 5R1
5.1R 1% 500mW 1210 Thick Film Resistor; Manufacturer: FOJAN; Manufacturer Part Number: FRC1210F5R10TS; Voltage Rating: 200V; Supplier: LCSC; Supplier Part Number: C2933823; Resistance: 5R1; Tolerance: 1%; Power: 500mW
footprint RES SMD 1210
pins: 1, 2

## RES 1210 5R1 5%
designator C?, comment 5R1
5.1R 5% 500mW 1210 Thick Film Resistor; Manufacturer: FOJAN; Manufacturer Part Number: FRC1210J5R1 TS; Voltage Rating: 200V; Supplier: LCSC; Supplier Part Number: C2933870; Resistance: 5R1; Tolerance: 5%; Power: 500mW
footprint RES SMD 1210
pins: 1, 2

## RES 1210 5R6 1%
designator C?, comment 5R6
5.6R 1% 500mW 1210 Thick Film Resistor; Manufacturer: FOJAN; Manufacturer Part Number: FRC1210F5R60TS; Voltage Rating: 200V; Supplier: LCSC; Supplier Part Number: C3013282; Resistance: 5R6; Tolerance: 1%; Power: 500mW
footprint RES SMD 1210
pins: 1, 2

## RES 1210 5R6 5%
designator C?, comment 5R6
5.6R 5% 500mW 1210 Thick Film Resistor; Manufacturer: FOJAN; Manufacturer Part Number: FRC1210J5R6TS; Voltage Rating: 200V; Supplier: LCSC; Supplier Part Number: C3000562; Resistance: 5R6; Tolerance: 5%; Power: 500mW
footprint RES SMD 1210
pins: 1, 2

## RES 1210 6k2 1%
designator C?, comment 6k2
6.2kR 1% 500mW 1210 Thick Film Resistor; Manufacturer: FOJAN; Manufacturer Part Number: FRC1210F6201TS; Voltage Rating: 200V; Supplier: LCSC; Supplier Part Number: C2933824; Resistance: 6k2; Tolerance: 1%; Power: 500mW
footprint RES SMD 1210
pins: 1, 2

## RES 1210 6k2 5%
designator C?, comment 6k2
6.2kR 5% 500mW 1210 Thick Film Resistor; Manufacturer: FOJAN; Manufacturer Part Number: FRC1210J622TS; Voltage Rating: 200V; Supplier: LCSC; Supplier Part Number: C2930447; Resistance: 6k2; Tolerance: 5%; Power: 500mW
footprint RES SMD 1210
pins: 1, 2

## RES 1210 6k8 1%
designator C?, comment 6k8
6.8kR 1% 500mW 1210 Thick Film Resistor; Manufacturer: FOJAN; Manufacturer Part Number: FRC1210F6801TS; Voltage Rating: 200V; Supplier: LCSC; Supplier Part Number: C5159742; Resistance: 6k8; Tolerance: 1%; Power: 500mW
footprint RES SMD 1210
pins: 1, 2

## RES 1210 6k8 5%
designator C?, comment 6k8
6.8kR 5% 500mW 1210 Thick Film Resistor; Manufacturer: FOJAN; Manufacturer Part Number: FRC1210J682 TS; Voltage Rating: 200V; Supplier: LCSC; Supplier Part Number: C2933872; Resistance: 6k8; Tolerance: 5%; Power: 500mW
footprint RES SMD 1210
pins: 1, 2

## RES 1210 6R2 1%
designator C?, comment 6R2
6.2R 1% 500mW 1210 Thick Film Resistor; Manufacturer: FOJAN; Manufacturer Part Number: FRC1210F6R20TS; Voltage Rating: 200V; Supplier: LCSC; Supplier Part Number: C2999575; Resistance: 6R2; Tolerance: 1%; Power: 500mW
footprint RES SMD 1210
pins: 1, 2